# EAGLE library part ADC122S625CIMM_NOPB (library ADC122S625CIMM_NOPB)
Dual 12-Bit, 50 kSPS to 200 kSPS, Simultaneous Sampling A/D Converter Source: Datasheet <http://www.ti.com/lit/ds/symlink/adc122s625.pdf>
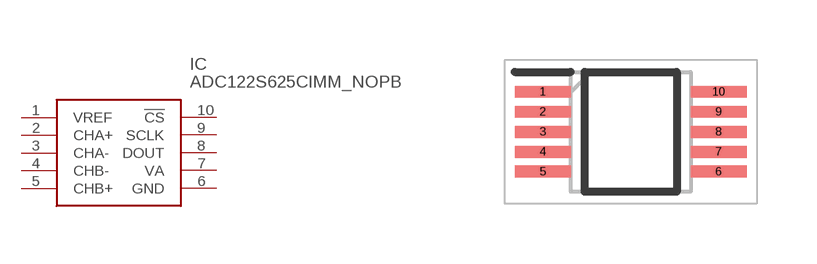
[diagram p0: symbol with the pads of SOP50P490X110-10N; footprint SOP50P490X110-10N]

Designator prefix IC

## ADC122S625CIMM_NOPB (Description: Dual 12-Bit, 50 kSPS to 200 kSPS, Simultaneous Sampling A/D Converter; Height: 1.1mm; Manufacturer_Name: Texas Instruments; Manufacturer_Part_Number: ADC122S625CIMM/NOPB; Mouser_Part_Number: 926-AD122S625CIMMNPB; Mouser_Price-Stock: https://www.mouser.com/Search/Refine.aspx?Keyword=926-AD122S625CIMMNPB; RS_Part_Number: 1624126; RS_Price-Stock: https://uk.rs-online.com/web/p/products/1624126)  [SOP50P490X110-10N]
1  VREF  in
2  CHA+
3  CHA-
4  CHB-
5  CHB+
6  GND  pwr
7  VA
8  DOUT  out
9  SCLK  in
10  !CS  in

## Footprint SOP50P490X110-10N (pad centres in mm)
DGS (S-PDSO-G10)
smd 1.4 x 0.3: 1 -2.2,1; 2 -2.2,0.5; 3 -2.2,0; 4 -2.2,-0.5; 5 -2.2,-1; 6 2.2,-1; 7 2.2,-0.5; 8 2.2,0; 9 2.2,0.5; 10 2.2,1